# Altium schematic symbol library OptronGOST.SchLib: 2 symbols
Pins are listed as number, name and electrical type; pins without a type are passive.

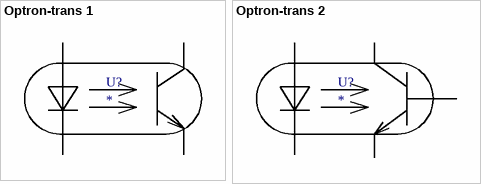
[diagram p0: symbols Optron-trans 1 to Optron-trans 2]

## Optron-trans 1
designator U?
Оптрон транзисторный 1; Order: Оптрон*, *, *; ManufacturerCountry: *; Manufacturer: *; Value: *
pins: 1, 2, 3, 4

## Optron-trans 2
designator U?
Оптрон транзисторный 2; ManufacturerCountry: ='Оптрон' +Value + ', ' + Manufacturer + ', ' + ManufacturerCountry; Value: *; Manufacturer: *; Order: *
pins: 1, 2, 3, 4, 5